# Altium schematic symbol library Buffer_Fairchild_NC7SZ125.SchLib: 1 symbol
Pins are listed as number, name and electrical type; pins without a type are passive.

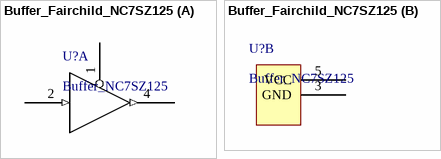
[diagram p0: symbol Buffer_Fairchild_NC7SZ125]

## Buffer_Fairchild_NC7SZ125
designator U?, comment Buffer_NC7SZ125
part A pins: 1, 2 (in), 4 (out)
part B pins: 3 GND, 5 VCC